# Altium footprint library Bitcoiner_EB_Project_V1I1.PcbLib: 38 footprints (part 1 of 3)
Each footprint in its own frame and in the unit in brackets; x right, y up, seen from the top. Pads: shape width x height; smd on the part's side, far side on the other; paste and mask are expansions set on the pad; w line width, h text height; cw(c..) or ccw(c..) is an arc to the next point about the centre after c.
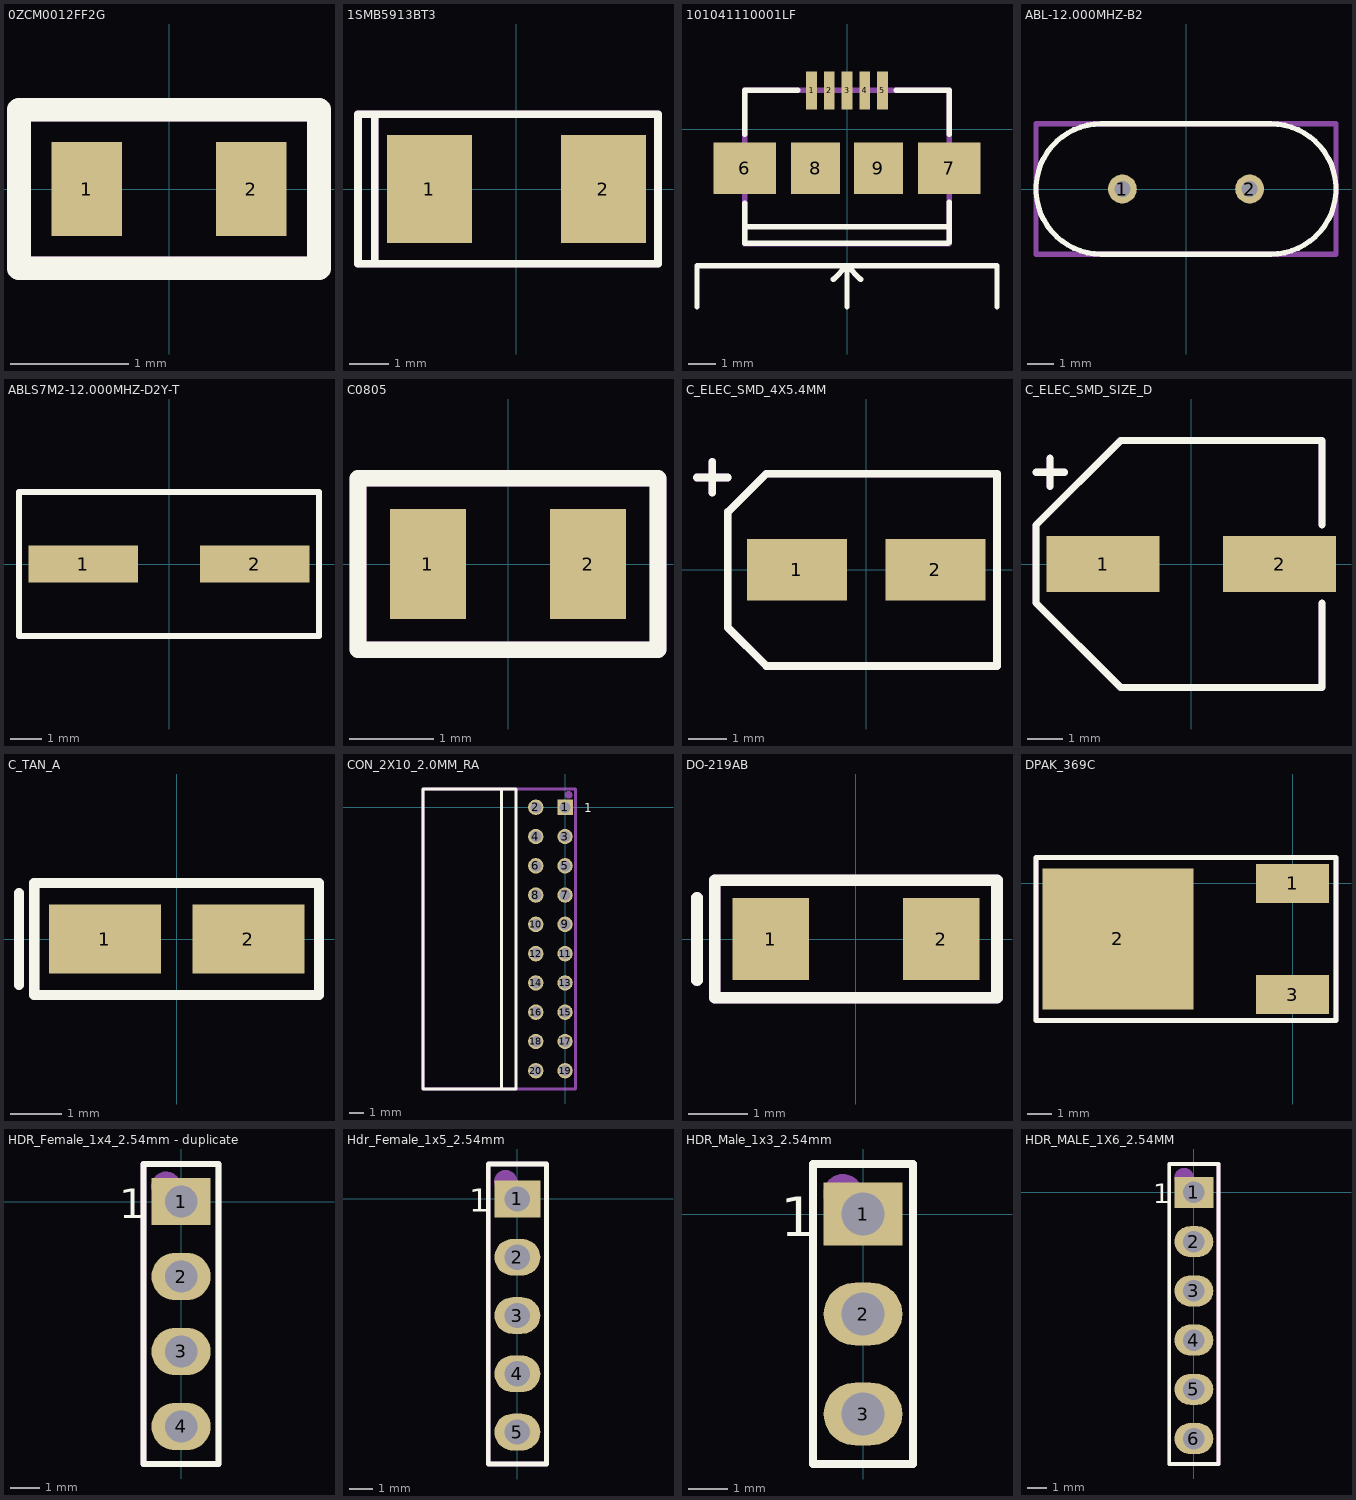
[diagram p0: the footprints below, top view; thin cyan lines are the x and y axes]

## 0ZCM0012FF2G [mm]
pads (2):
  rect 0.6x0.8 smd: 1(-0.7,0) 2(0.7,0)
Top Overlay:
  lines w0.2: -1.275,-0.675 1.275,-0.675 1.275,0.675 -1.275,0.675 -1.275,-0.675
Mechanical 29:
  lines w0.2: -1.275,-0.675 1.275,-0.675 1.275,0.675 -1.275,0.675 -1.275,-0.675
  text ".Designator" at -0.999,-0.75 h0.9
3D body "fuse_silicon_0603L.step": height 0.46, standoff 0.01, extent -0.9,-0.52 0.9,0.52

## 1SMB5913BT3 [mm]
pads (2):
  rect 2.159x2.743 smd: 1(-2.21,0) 2(2.21,0)
Top Overlay:
  lines w0.2: -3.6,-1.9 -4.025,-1.9 -4.025,1.9 -3.6,1.9 ; -3.6,-1.9 3.6,-1.9 3.6,1.9 -3.6,1.9 ; -3.6,-1.9 -3.6,1.9
Mechanical 29:
  lines w0.2: -3.6,-1.9 -3.6,1.9 ; -3.6,-1.9 3.6,-1.9 3.6,1.9 -3.6,1.9 ; -3.6,-1.9 -4.025,-1.9 -4.025,1.9 -3.6,1.9
  text ".Designator" at -1.875,-0.45 h1.2
3D body "403A-03.STEP": height 2.32, standoff 0.01, extent -2.72,-1.78 2.72,1.78

## 101041110001LF [mm]
pads (9):
  rect 0.4x1.4 smd: 1(-1.3,1.425) 2(-0.65,1.425) 3(0,1.425) 4(0.65,1.425) 5(1.3,1.425)
  rect 2.3x1.9 smd: 6(-3.75,-1.425) 7(3.75,-1.425)
  rect 1.8x1.9 smd: 8(-1.15,-1.425) 9(1.15,-1.425)
Top Overlay:
  lines w0.2: -5.5,-6.5 -5.5,-5 5.5,-5 5.5,-6.5 ; -3.75,-3.575 3.75,-3.575 ; -3.75,-2.7 -3.75,-4.175 3.7,-4.175 3.725,-4.15 3.75,-4.15 3.75,-2.675 ; -3.75,-0.175 -3.75,1.425 -1.8,1.425 ; -0.5,-5.5 0,-5 ; 0,-6.5 0,-5 ; 0.5,-5.5 0,-5 ; 1.8,1.425 3.75,1.425 3.75,-0.175
Mechanical 29:
  lines w0.2: -3.75,-4.2 3.75,-4.2 3.75,1.425 -3.75,1.425 -3.75,-4.2
  text ".Designator" at -2.671,-1.963 h1.52
3D body "10104111C.stp": height 2.77, standoff -0.3, extent -4.4,-4.2 4.4,1.425

## ABL-12.000MHZ-B2 [mm]
pads (2):
  round 1.107 hole 0.607: 1(-2.44,0) 2(2.44,0)
Top Overlay:
  lines w0.2: -3.25,-2.5 cw(c-3.25,0) -3.25,2.5 3.25,2.5 cw(c3.25,0) 3.25,-2.5 -3.25,-2.5
Mechanical 29:
  lines w0.2: -5.75,-2.5 5.75,-2.5 5.75,2.5 -5.75,2.5 -5.75,-2.5
  text ".Designator" at -0.3,-0.35 h0.6
3D body "ABL.STEP": height 3.51, standoff -5.49, extent -5.75,-2.5 5.75,2.5

## ABLS7M2-12.000MHZ-D2Y-T [mm]
pads (2):
  rect 3.5x1.2 smd: 1(-2.75,0) 2(2.75,0)
Top Overlay:
  lines w0.2: -4.8,-2.3 -4.8,2.3 4.8,2.3 4.8,-2.3 -4.8,-2.3
Mechanical 29:
  lines w0.2: -4.8,-2.3 -4.8,2.3 4.8,2.3 4.8,-2.3 -4.8,-2.3
  text ".Designator" at -1.6,-0.275 h0.6
3D body "ABLS7M2.STEP": height 1.91, standoff 0.01, extent -3.8,-2.05 3.8,2.05

## C0805 [mm]
pads (2):
  rect 0.9x1.3 smd: 1(-0.95,0) 2(0.95,0)
Top Overlay:
  lines w0.2: -1.778,-1.016 -1.778,1.016 1.778,1.016 1.778,-1.016 -1.778,-1.016
Mechanical 29:
  lines w0.2: -1.778,-1.016 1.778,-1.016 ; -1.778,-1.016 -1.778,1.016 ; -1.778,-1.016 -1.778,1.016 ; -1.778,-1.016 1.778,-1.016 ; -1.778,1.016 1.778,1.016 ; -1.778,1.016 1.778,1.016 ; 1.778,-1.016 1.778,1.016 ; 1.778,-1.016 1.778,1.016
  text ".Designator" at -1.17,-0.208 h0.6
  text ".Designator" at -0.664,-1.559 h1.2
3D body "CAPC2012X94N EIA 0805.step": height 0.95, standoff 0.01, extent -1,-0.6 1,0.6

## C_ELEC_SMD_4X5.4MM [mm]
pads (2):
  rect 2.6x1.6 smd: 1(-1.8,0) 2(1.8,0)
Top Overlay:
  lines w0.2: -4.4,2.4 -3.6,2.4 ; -4,2 -4,2.8 ; -3.6,-1.5 -2.6,-2.5 3.4,-2.5 3.4,2.5 -2.6,2.5 -3.6,1.5 -3.6,-1.5
Mechanical 29:
  lines w0.2: -4.4,2.4 -3.6,2.4 ; -4,2 -4,2.8 ; -3.6,-1.5 -3.6,1.5 -2.6,2.5 3.4,2.5 3.4,-2.5 -2.6,-2.5 -3.6,-1.5
  text ".Designator" at -1.5,-0.6 h1.2
3D body "EDH106M025A9BAA.step": height 5.67, standoff 0.01, extent -2.6,-2.3 2.6,2.2

## C_ELEC_SMD_SIZE_D [mm]
pads (2):
  rect 3.2x1.6 smd: 1(-2.5,0) 2(2.5,0)
Top Overlay:
  lines w0.2: -4.4,2.6 -3.6,2.6 ; -4,2.2 -4,3 ; 3.7,-1.1 3.7,-3.5 -2,-3.5 -4.4,-1.1 -4.4,1.1 -2,3.5 3.7,3.5 3.7,1.1
Mechanical 29:
  lines w0.2: -4.4,2.6 -3.6,2.6 ; -4,2.2 -4,3 ; 3.7,-1.1 3.7,-3.5 -2,-3.5 -4.4,-1.1 -4.4,1.1 -2,3.5 3.7,3.5 3.7,1.1
  text ".Designator" at -1.4,-1 h1.2
3D body "CAPAE_D.STEP": height 5.41, standoff -0.01, extent -3.5,-3.3 3.5,3.3

## C_TAN_A [mm]
pads (2):
  rect 2.2x1.35 smd: 1(-1.41,0) 2(1.41,0)
Top Overlay:
  lines w0.2: -3.1,-0.9 -3.1,0.9 ; -2.8,-1.1 2.8,-1.1 2.8,1.1 -2.8,1.1 -2.8,-1.1
Mechanical 29:
  lines w0.2: -3.1,-0.9 -3.1,0.9 ; -2.8,-1.1 -2.8,1.1 2.8,1.1 2.8,-1.1 -2.8,-1.1
  text ".Designator" at -1.7,-0.5 h1.2
3D body "T491A475K016AT.step": height 1.82, standoff 0.01, extent -1.7,-0.9 1.7,0.9

## CON_2X10_2.0MM_RA [mm]
pads (20):
  rect 1.05x1.05 hole 0.75: 1(0,0)
  round 1.05 hole 0.75: 2(-2,0) 3(0,-2) 4(-2,-2) 5(0,-4) 6(-2,-4) 7(0,-6) 8(-2,-6) 9(0,-8) 10(-2,-8) 11(0,-10) 12(-2,-10) 13(0,-12) 14(-2,-12) 15(0,-14) 16(-2,-14) 17(0,-16) 18(-2,-16) 19(0,-18) 20(-2,-18)
Top Overlay:
  lines w0.2: -4.35,-19.25 -4.35,1.25 ; -9.7,-19.25 -9.7,1.25 -3.35,1.25 -3.35,-19.25 -9.7,-19.25
  text "1" at 1.3,-0.325 h0.6
Mechanical 29:
  circle w0.3: c0.25,0.85 r0.112
  lines w0.2: -9.7,-19.25 0.7,-19.25 0.7,1.25 -9.7,1.25 -9.7,-19.25
  text ".Designator" at -0.762,-10.996 h1.52
3D body "SQT-110-01-F-D-RA.stp": height 4.01, standoff -2.27, extent -9.65,-19.148 0.22,1.149

## DO-219AB [mm]
pads (2):
  rect 1.3x1.4 smd: 1(-1.45,0) 2(1.45,0)
Top Overlay:
  lines w0.2: -2.7,-0.7 -2.7,0.7 ; -2.4,-1 2.4,-1 2.4,1 -2.4,1 -2.4,-1
Mechanical 29:
  lines w0.2: -2.7,-0.7 -2.7,0.7 ; -2.4,-1 -2.4,1 2.4,1 2.4,-1 -2.4,-1
  text ".Designator" at -1.5,-0.6 h0.6
3D body "DO-219AB.stp": height 1.08, standoff 0, extent -1.95,-0.95 1.95,0.95

## DPAK_369C [mm]
pads (3):
  rect 3x1.6 smd: 1(0,0) 3(0,-4.57)
  rect 6.2x5.8 smd: 2(-7.18,-2.285)
Top Overlay:
  lines w0.2: -10.541,-5.639 -10.541,1.067 1.778,1.067 1.778,-5.639 -10.541,-5.639
Mechanical 29:
  lines w0.2: -10.541,-5.639 1.778,-5.639 1.778,1.067 -10.541,1.067 -10.541,-5.639
  text ".Designator" at -7.574,-2.729 h1.2
3D body "DPAK.step": height 2.39, standoff 0, extent -9.431,-5.651 1.016,1.079

## HDR_Female_1x4_2.54mm - duplicate [mm]
pads (4):
  rect 2x1.6 hole 1.1: 1(0,0)
  oval 2x1.6 hole 1.1: 2(0,-2.54) 3(0,-5.08) 4(0,-7.62)
Top Overlay:
  lines w0.2: -1.27,-8.89 1.27,-8.89 1.27,1.27 -1.27,1.27 -1.27,-8.89
  text "1" at -2.086,-0.562 h1
Mechanical 29:
  circle w0.5: c-0.508,0.508 r0.254
  lines w0.2: -1.27,-8.89 1.27,-8.89 1.27,1.27 -1.27,1.27 -1.27,-8.89
  text ".Designator" at 0.508,-5.588 h1.52
3D body "1x4 TH Pitch 2_54mm.STEP": height 9.21, standoff -3.49, extent -1.27,-8.91 1.27,1.25

## Hdr_Female_1x5_2.54mm [mm]
pads (5):
  rect 2x1.6 hole 1.1: 1(0,0)
  oval 2x1.6 hole 1.1: 2(0,-2.54) 3(0,-5.08) 4(0,-7.62) 5(0,-10.16)
Top Overlay:
  lines w0.2: -1.27,-11.55 -1.27,1.524 1.27,1.524 1.27,-11.55 -1.27,-11.55
  text "1" at -2.086,-0.562 h1
Mechanical 29:
  circle w0.5: c-0.508,0.762 r0.254
  lines w0.2: -1.27,-11.55 1.27,-11.55 1.27,1.524 -1.27,1.524 -1.27,-11.55
  text ".Designator" at 0.713,-8.671 h1.52
3D body "HEADER_4PINS_2.54MM.STEP": height 8.96, standoff -3.74, extent -1.27,-8.88 1.27,1.28
3D body "HEADER_4PINS_2.54MM.STEP": height 8.96, standoff -3.74, extent -1.27,-11.38 1.27,-1.22

## HDR_Male_1x3_2.54mm [mm]
pads (3):
  rect 2x1.6 hole 1.1: 1(0,0)
  oval 2x1.6 hole 1.1: 2(0,-2.54) 3(0,-5.08)
Top Overlay:
  lines w0.2: -1.27,-6.35 1.27,-6.35 1.27,1.27 -1.27,1.27 -1.27,-6.35
  text "1" at -2.086,-0.562 h1
Mechanical 29:
  circle w0.5: c-0.508,0.508 r0.254
  lines w0.2: -1.27,-6.35 1.27,-6.35 1.27,1.27 -1.27,1.27 -1.27,-6.35
  text ".Designator" at 0.913,-5.371 h1.52
3D body "HEADER_3PINS_2.54MM.STEP": height 9.21, standoff -3.49, extent -1.27,-6.35 1.27,1.27

## HDR_MALE_1X6_2.54MM [mm]
pads (6):
  rect 2x1.6 hole 1.1: 1(0,0)
  oval 2x1.6 hole 1.1: 2(0,-2.54) 3(0,-5.08) 4(0,-7.62) 5(0,-10.16) 6(0,-12.7)
Top Overlay:
  lines w0.2: -1.27,-14.01 -1.27,1.465 1.27,1.465 1.27,-14.01 -1.27,-14.01
  text "1" at -2.086,-0.562 h1
Mechanical 29:
  circle w0.5: c-0.508,0.762 r0.254
  lines w0.2: -1.27,-14.01 1.27,-14.01 1.27,1.465 -1.27,1.465 -1.27,-14.01
  text ".Designator" at 0.538,-9.146 h1.52
3D body "HEADER_4PINS_2.54MM.STEP": height 8.96, standoff -3.74, extent -1.27,-13.97 1.27,-3.81
3D body "HEADER_4PINS_2.54MM.STEP": height 8.96, standoff -3.74, extent -1.27,-8.88 1.27,1.28